# Altium integrated library logo.IntLib: 51 symbols
Pins are listed as number, name and electrical type; pins without a type are passive.

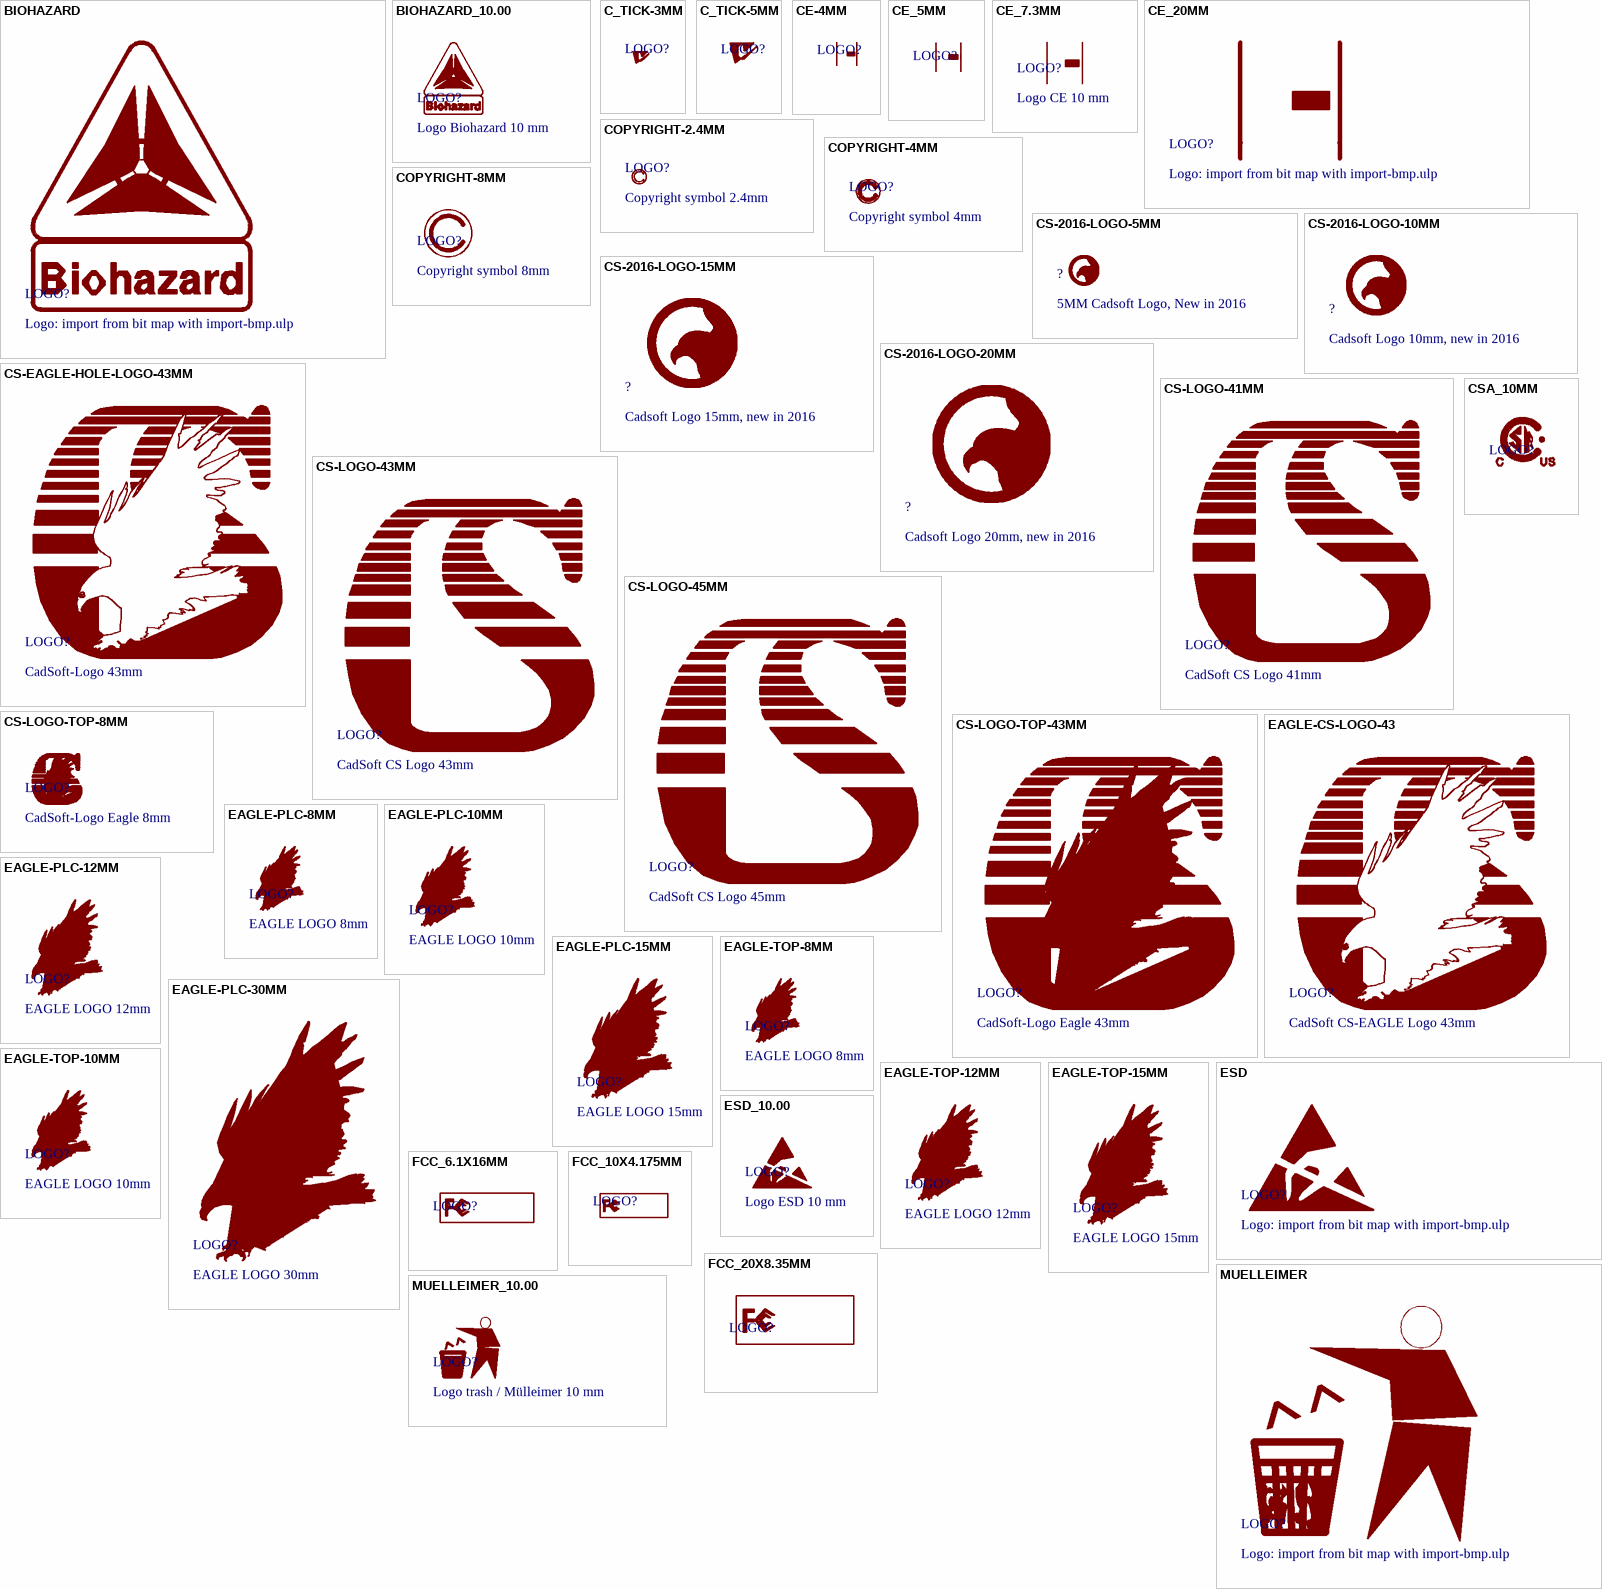
[diagram p0: symbols BIOHAZARD to MUELLEIMER_10.00]

## BIOHAZARD
designator LOGO?, comment Logo: import from bit map with import-bmp.ulp

## BIOHAZARD_10.00
designator LOGO?, comment Logo Biohazard 10 mm

## C_TICK-3MM
designator LOGO?

## C_TICK-5MM
designator LOGO?

## CE-4MM
designator LOGO?

## CE_5MM
designator LOGO?

## CE_7.3MM
designator LOGO?, comment Logo CE 10 mm

## CE_20MM
designator LOGO?, comment Logo: import from bit map with import-bmp.ulp

## COPYRIGHT-2.4MM
designator LOGO?, comment Copyright symbol 2.4mm

## COPYRIGHT-4MM
designator LOGO?, comment Copyright symbol 4mm

## COPYRIGHT-8MM
designator LOGO?, comment Copyright symbol 8mm

## CS-2016-LOGO-5MM
designator ?, comment 5MM Cadsoft Logo, New in 2016

## CS-2016-LOGO-10MM
designator ?, comment Cadsoft Logo 10mm, new in 2016

## CS-2016-LOGO-15MM
designator ?, comment Cadsoft Logo 15mm, new in 2016

## CS-2016-LOGO-20MM
designator ?, comment Cadsoft Logo 20mm, new in 2016

## CS-EAGLE-HOLE-LOGO-43MM
designator LOGO?, comment CadSoft-Logo 43mm

## CS-LOGO-41MM
designator LOGO?, comment CadSoft CS Logo 41mm

## CS-LOGO-43MM
designator LOGO?, comment CadSoft CS Logo 43mm

## CS-LOGO-45MM
designator LOGO?, comment CadSoft CS Logo 45mm

## CS-LOGO-TOP-8MM
designator LOGO?, comment CadSoft-Logo Eagle 8mm

## CS-LOGO-TOP-43MM
designator LOGO?, comment CadSoft-Logo Eagle 43mm

## CSA_10MM
designator LOGO?

## EAGLE-CS-LOGO-43
designator LOGO?, comment CadSoft CS-EAGLE Logo 43mm

## EAGLE-PLC-8MM
designator LOGO?, comment EAGLE LOGO 8mm

## EAGLE-PLC-10MM
designator LOGO?, comment EAGLE LOGO 10mm

## EAGLE-PLC-12MM
designator LOGO?, comment EAGLE LOGO 12mm

## EAGLE-PLC-15MM
designator LOGO?, comment EAGLE LOGO 15mm

## EAGLE-PLC-30MM
designator LOGO?, comment EAGLE LOGO 30mm

## EAGLE-TOP-8MM
designator LOGO?, comment EAGLE LOGO 8mm

## EAGLE-TOP-10MM
designator LOGO?, comment EAGLE LOGO 10mm

## EAGLE-TOP-12MM
designator LOGO?, comment EAGLE LOGO 12mm

## EAGLE-TOP-15MM
designator LOGO?, comment EAGLE LOGO 15mm

## ESD
designator LOGO?, comment Logo: import from bit map with import-bmp.ulp

## ESD_10.00
designator LOGO?, comment Logo ESD 10 mm

## FCC_6.1X16MM
designator LOGO?

## FCC_10X4.175MM
designator LOGO?

## FCC_20X8.35MM
designator LOGO?

## MUELLEIMER
designator LOGO?, comment Logo: import from bit map with import-bmp.ulp

## MUELLEIMER_10.00
designator LOGO?, comment Logo trash / Mülleimer 10 mm

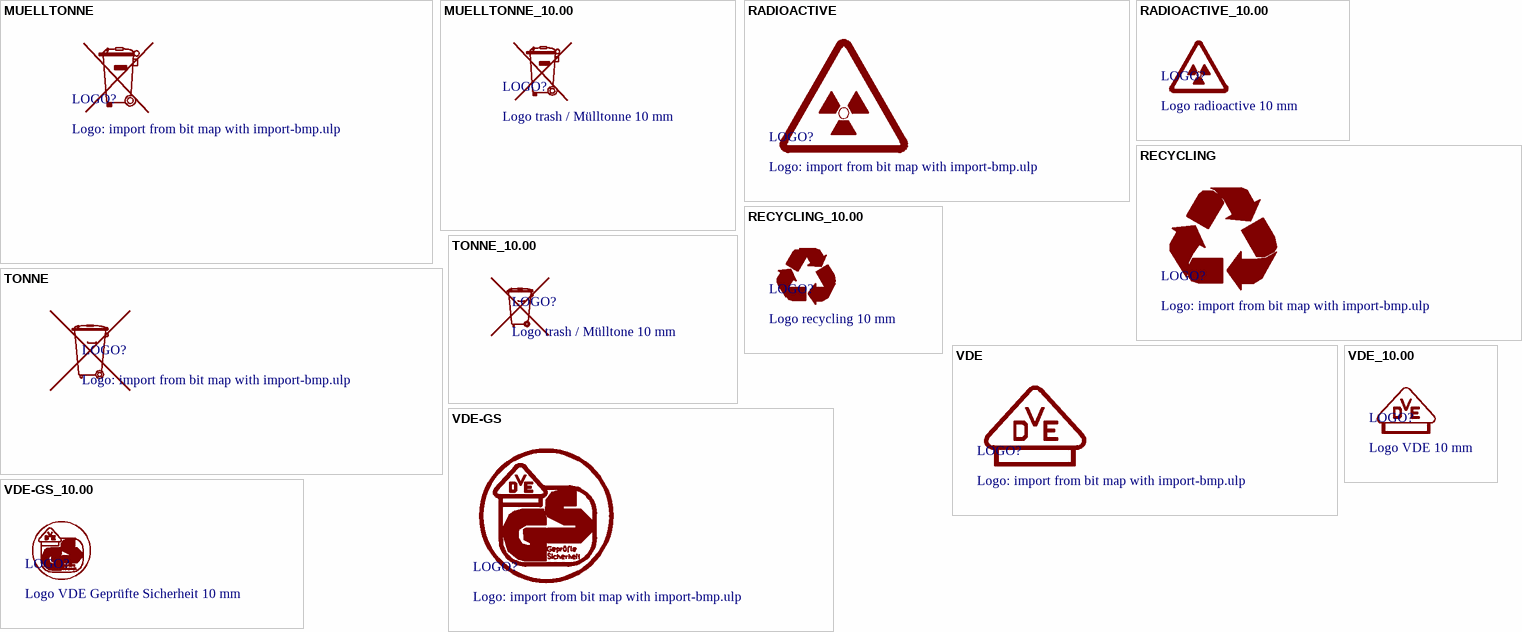
[diagram p1: symbols MUELLTONNE to VDE_10.00]

## MUELLTONNE
designator LOGO?, comment Logo: import from bit map with import-bmp.ulp

## MUELLTONNE_10.00
designator LOGO?, comment Logo trash / Mülltonne 10 mm

## RADIOACTIVE
designator LOGO?, comment Logo: import from bit map with import-bmp.ulp

## RADIOACTIVE_10.00
designator LOGO?, comment Logo radioactive 10 mm

## RECYCLING
designator LOGO?, comment Logo: import from bit map with import-bmp.ulp

## RECYCLING_10.00
designator LOGO?, comment Logo recycling 10 mm

## TONNE
designator LOGO?, comment Logo: import from bit map with import-bmp.ulp

## TONNE_10.00
designator LOGO?, comment Logo trash / Mülltone 10 mm

## VDE
designator LOGO?, comment Logo: import from bit map with import-bmp.ulp

## VDE-GS
designator LOGO?, comment Logo: import from bit map with import-bmp.ulp

## VDE-GS_10.00
designator LOGO?, comment Logo VDE Geprüfte Sicherheit 10 mm

## VDE_10.00
designator LOGO?, comment Logo VDE 10 mm